# EAGLE library part TXS0101DBVT (library SamacSys_Parts)
1-Bit Bidirectional Voltage-Level Shifter for Open-Drain and Push-Pull Application Source: Datasheet <http://www.ti.com/lit/gpn/TXS0101>
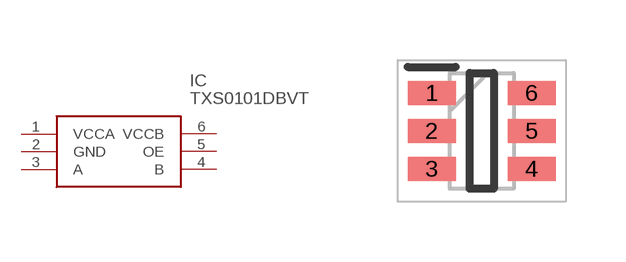
[diagram p225: symbol with the pads of SOT95P280X145-6N; footprint SOT95P280X145-6N]

Designator prefix IC

## TXS0101DBVT (DESCRIPTION: 1-Bit Bidirectional Voltage-Level Shifter for Open-Drain and Push-Pull Application; HEIGHT: 1.45mm; MANUFACTURER_NAME: Texas Instruments; MANUFACTURER_PART_NUMBER: TXS0101DBVT; MOUSER_PART_NUMBER: 595-TXS0101DBVT; MOUSER_PRICE-STOCK: https://www.mouser.co.uk/ProductDetail/Texas-Instruments/TXS0101DBVT?qs=dqESbKqT1jZcpvQ8SmOthw%3D%3D)  [SOT95P280X145-6N]
1  VCCA
2  GND
3  A
4  B
5  OE
6  VCCB

## Footprint SOT95P280X145-6N (pad centres in mm)
DBV000a
smd 1.2 x 0.6: 1 -1.25,0.95; 2 -1.25,0; 3 -1.25,-0.95; 4 1.25,-0.95; 5 1.25,0; 6 1.25,0.95